# EAGLE library part RCD-24*/W/X3 (library recom-international)
Constant Current Output LED Driver Analogue Dimming and PWM Dimming ON/OFF Source: http://www.recom-international.de/pdf/Innoline/RCD-24.pdf
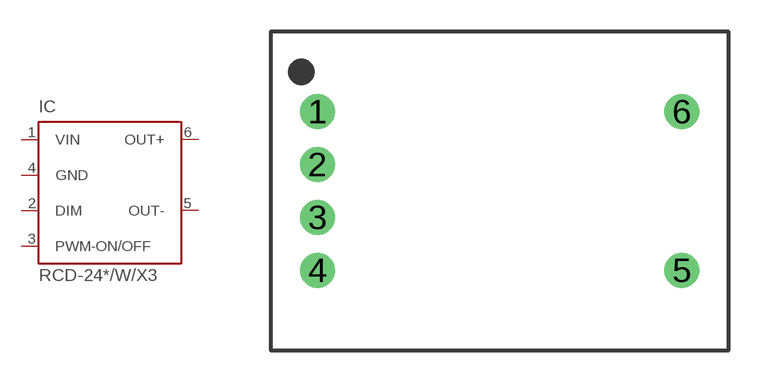
[diagram p0: symbol with the pads of RCD-24/W/X3; footprint RCD-24/W/X3]

Designator prefix IC

## RCD-24-0.30/W/X3, RCD-24-0.35/W/X3, RCD-24-0.50/W/X3, RCD-24-0.60/W/X3, RCD-24-0.70/W/X3, RCD-24-1.00/W/X3, RCD-24-1.20/W/X3  [RCD-24/W/X3]
1  VIN  in
2  DIM  pas
3  PWM-ON/OFF  pas
4  GND  pwr
5  OUT-  out
6  OUT+  out

## Footprint RCD-24/W/X3 (pad centres in mm)
DC/DC Converter RCD.24 Series /W/X3 Source: http://www.recom-international.com/pdf/Innoline-2008/RCD-24.pdf
drill 1 pad 1.676 round: 1 -8.75,3.81; 2 -8.75,1.27; 3 -8.75,-1.27; 4 -8.75,-3.81; 5 8.75,-3.81; 6 8.75,3.81